# Altium schematic symbol library HC49S-8-30-50-70-30-ATF.SchLib: 1 symbol
Pins are listed as number, name and electrical type; pins without a type are passive.

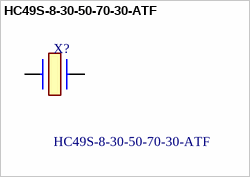
[diagram p0: symbol HC49S-8-30-50-70-30-ATF]

## HC49S-8-30-50-70-30-ATF
designator X?
MULTICOMP PRO HC49S-8-30-50-70-30-ATFCrystal, 8 MHz, Through Hole, 10.9mm x 4.65mm, 50 ppm, 30 pF, 30 ppm, HC49S; Geometry.Height: 4mm; Farnell Part Number: *; Farnell Price/Stock: *; Manufacturer_Name: Multicomp Pro; Manufacturer_Part_Number: HC49S-8-30-50-70-30-ATF; Datasheet Link: *
footprint HC49S830507030ATF
pins: 1, 2